# EAGLE library part QPC1022 (library U-Qorvo-QPC1022-RF-SPDT-switch)
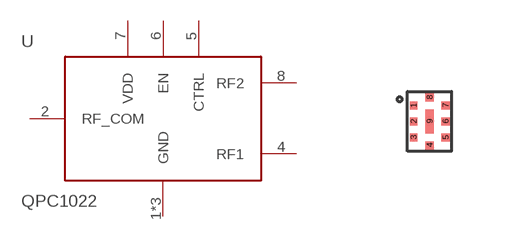
[diagram p0: symbol with the pads of QPC1022; footprint QPC1022]

Designator prefix U

## QPC1022 (MFR: Qorvo; MPN: QPC1022)  [QPC1022]
1  GND  pwr
2  RF_COM
3  GND  pwr
4  RF1
5  CTRL
6  EN
7  VDD  pwr
8  RF2
9  GND  pwr

## Footprint QPC1022 (pad centres in mm)
smd 0.2 x 0.2: 1 -0.4,0.4; 2 -0.4,0; 3 -0.4,-0.4; 4 0,-0.6; 5 0.4,-0.4; 6 0.4,0; 7 0.4,0.4; 8 0,0.6
smd 0.2 x 0.6: 9 0,0